# EAGLE library part RPI-B+-V1 (library raspberrypi)
Raspberry Pi B+ Website <http://www.raspberrypi.org/documentation/hardware/raspberrypi/>
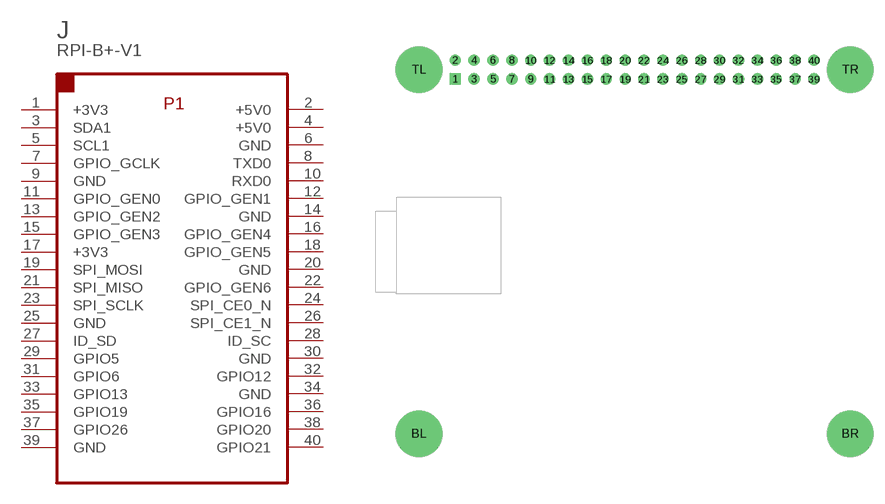
[diagram p3: symbol with the pads of RPI-B+-V1.2; footprint RPI-B+-V1.2]

Designator prefix J

## RPI-B+-V1  [RPI-B+-V1.2]
1  +3V3  pwr
2  +5V0  pwr
3  SDA1
4  +5V0  pwr
5  SCL1
6  GND  pwr
7  GPIO_GCLK
8  TXD0
9  GND  pwr
10  RXD0
11  GPIO_GEN0
12  GPIO_GEN1
13  GPIO_GEN2
14  GND  pwr
15  GPIO_GEN3
16  GPIO_GEN4
17  +3V3  pwr
18  GPIO_GEN5
19  SPI_MOSI
20  GND  pwr
21  SPI_MISO
22  GPIO_GEN6
23  SPI_SCLK
24  SPI_CE0_N
25  GND  pwr
26  SPI_CE1_N
27  ID_SD
28  ID_SC
29  GPIO5
30  GND  pwr
31  GPIO6
32  GPIO12
33  GPIO13
34  GND  pwr
35  GPIO19
36  GPIO16
37  GPIO26
38  GPIO20
39  GND  pwr
40  GPIO21

## Footprint RPI-B+-V1.2 (pad centres in mm)
Raspberry Pi B+ board outline with mounting holes and GPIO header. Doc layers assume Pi is mounted underneath library part. Website <http://www.raspberrypi.org/documentation/hardware/raspberrypi/>
drill 1.016 square: 1 8.37,51.23
drill 1.016: 2 8.37,53.77; 3 10.91,51.23; 4 10.91,53.77; 5 13.45,51.23; 6 13.45,53.77; 7 15.99,51.23; 8 15.99,53.77; 9 18.53,51.23; 10 18.53,53.77; 11 21.07,51.23; 12 21.07,53.77; 13 23.61,51.23; 14 23.61,53.77; 15 26.15,51.23; 16 26.15,53.77; 17 28.69,51.23; 18 28.69,53.77; 19 31.23,51.23; 20 31.23,53.77; 21 33.77,51.23; 22 33.77,53.77; 23 36.31,51.23; 24 36.31,53.77; 25 38.85,51.23; 26 38.85,53.77; 27 41.39,51.23; 28 41.39,53.77; 29 43.93,51.23; 30 43.93,53.77; 31 46.47,51.23; 32 46.47,53.77; 33 49.01,51.23; 34 49.01,53.77; 35 51.55,51.23; 36 51.55,53.77; 37 54.09,51.23; 38 54.09,53.77; 39 56.63,51.23; 40 56.63,53.77
drill 2.9 pad 6.2: BL 3.5,3.5; BR 61.5,3.5; TL 3.5,52.5; TR 61.5,52.5